# Altium schematic symbol library ESP8266.SchLib: 13 symbols
Pins are listed as number, name and electrical type; pins without a type are passive.

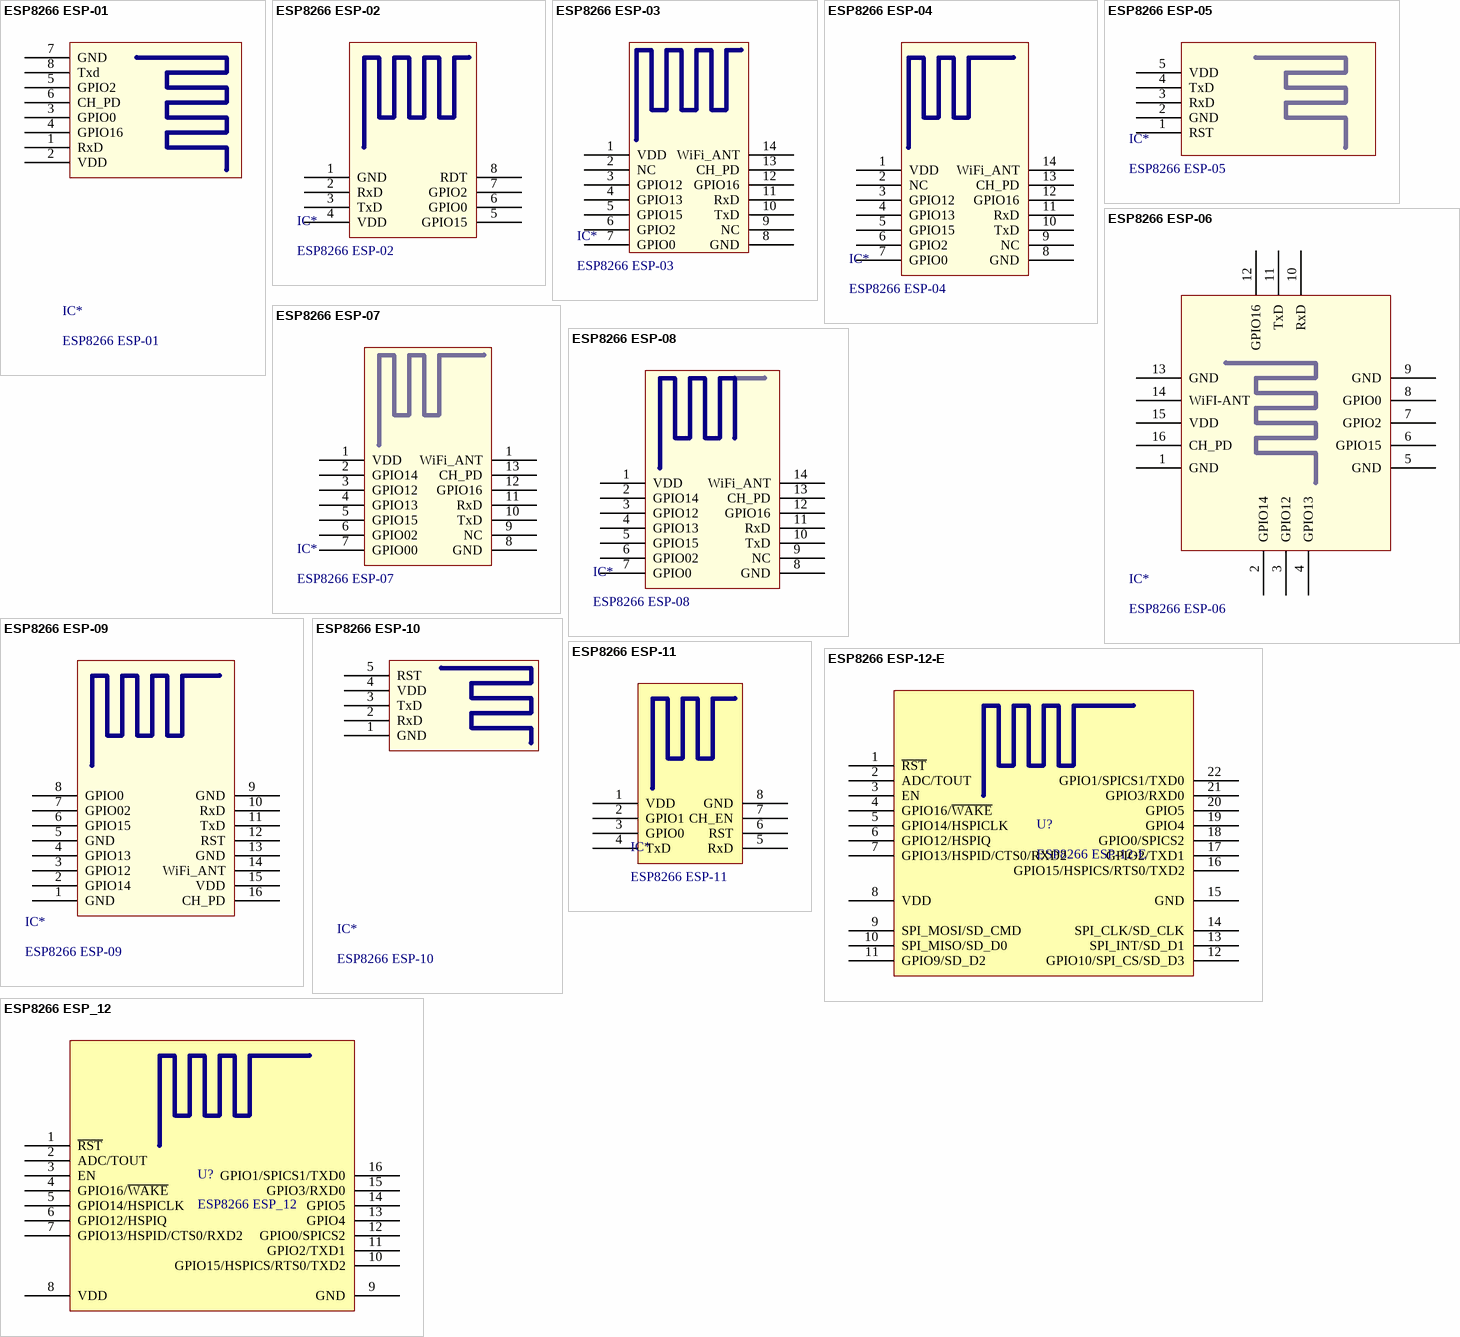
[diagram p0: symbols ESP8266 ESP-01 to ESP8266 ESP_12]

## ESP8266 ESP-01
designator IC*
footprint ESP8266 ESP-07 (ESP8266 ESP-01)
pins: 1 RxD, 2 VDD, 3 GPIO0, 4 GPIO16, 5 GPIO2, 6 CH_PD, 7 GND, 8 Txd

## ESP8266 ESP-02
designator IC*
footprint ESP8266 ESP-02
pins: 1 GND, 2 RxD, 3 TxD, 4 VDD, 5 GPIO15, 6 GPIO0, 7 GPIO2, 8 RDT

## ESP8266 ESP-03
designator IC*
footprint ESP8266 ESP-03
pins: 1 VDD, 2 NC, 3 GPIO12, 4 GPIO13, 5 GPIO15, 6 GPIO2, 7 GPIO0, 8 GND, 9 NC, 10 TxD, 11 RxD, 12 GPIO16, 13 CH_PD, 14 WiFi_ANT

## ESP8266 ESP-04
designator IC*
footprint ESP8266 ESP-04
pins: 1 VDD, 2 NC, 3 GPIO12, 4 GPIO13, 5 GPIO15, 6 GPIO2, 7 GPIO0, 8 GND, 9 NC, 10 TxD, 11 RxD, 12 GPIO16, 13 CH_PD, 14 WiFi_ANT

## ESP8266 ESP-05
designator IC*
footprint ESP8266 ESP-05
pins: 1 RST, 2 GND, 3 RxD, 4 TxD, 5 VDD

## ESP8266 ESP-06
designator IC*
footprint ESP8266 ESP-06
pins: 1 GND, 2 GPIO14, 3 GPIO12, 4 GPIO13, 5 GND, 6 GPIO15, 7 GPIO2, 8 GPIO0, 9 GND, 10 RxD, 11 TxD, 12 GPIO16, 13 GND, 14 WiFI-ANT, 15 VDD, 16 CH_PD

## ESP8266 ESP-07
designator IC*
footprint ESP8266 ESP-07 (ESP8266 ESP-01)
pins: 1 VDD (power), 1 WiFi_ANT, 2 GPIO14, 3 GPIO12, 4 GPIO13, 5 GPIO15, 6 GPIO02, 7 GPIO00, 8 GND, 9 NC, 10 TxD, 11 RxD, 12 GPIO16, 13 CH_PD

## ESP8266 ESP-08
designator IC*
footprint ESP8266 ESP-08
pins: 1 VDD (power), 2 GPIO14, 3 GPIO12, 4 GPIO13, 5 GPIO15, 6 GPIO02, 7 GPIO0, 8 GND, 9 NC, 10 TxD, 11 RxD, 12 GPIO16, 13 CH_PD, 14 WiFi_ANT

## ESP8266 ESP-09
designator IC*
footprint ESP8266 ESP-09
pins: 1 GND (power), 2 GPIO14, 3 GPIO12, 4 GPIO13, 5 GND (power), 6 GPIO15, 7 GPIO02, 8 GPIO0, 9 GND (power), 10 RxD, 11 TxD, 12 RST, 13 GND (power), 14 WiFi_ANT, 15 VDD (power), 16 CH_PD

## ESP8266 ESP-10
designator IC*
footprint ESP8266 ESP-10
pins: 1 GND, 2 RxD, 3 TxD, 4 VDD, 5 RST

## ESP8266 ESP-11
designator IC*
footprint ESP8266 ESP-11
pins: 1 VDD, 2 GPIO1, 3 GPIO0, 4 TxD, 5 RxD, 6 RST, 7 CH_EN, 8 GND

## ESP8266 ESP-12-E
designator U?
footprint ESP8266 ESP-12-E
pins: 1 ~{RST} "Reset", 2 ADC/TOUT "ADC Input Or TOUT Output", 3 EN "Chip enable", 4 GPIO16/~{WAKE} "GPIO16 or Deep-Sleep Wakeup", 5 GPIO14/HSPICLK "GPIO14 or SPI CLK", 6 GPIO12/HSPIQ "GPIO12 or SPIQ", 7 GPIO13/HSPID/CTS0/RXD2 "GPIO13 or SPID", 8 VDD "Power supply", 9 SPI_MOSI/SD_CMD "GPIO14 or SPI CLK", 10 SPI_MISO/SD_D0 "GPIO12 or SPIQ", 11 GPIO9/SD_D2 "GPIO13 or SPID", 12 GPIO10/SPI_CS/SD_D3 "GPIO15 or SPICS", 13 SPI_INT/SD_D1 "GPIO2 or TX", 14 SPI_CLK/SD_CLK "GPIO0 or SPICS2", 15 GND "Power ground", 16 GPIO15/HSPICS/RTS0/TXD2 "GPIO15 or SPICS", 17 GPIO2/TXD1 "GPIO2 or TX", 18 GPIO0/SPICS2 "GPIO0 or SPICS2", 19 GPIO4 "GPIO5", 20 GPIO5 "GPIO4", 21 GPIO3/RXD0 "GPIO3 or UART RXD", 22 GPIO1/SPICS1/TXD0 "GPIO1 or UART TXD"

## ESP8266 ESP_12
designator U?
ESP8266 ESP-12; IC: ESP8266-EX; Vendor: Ai-thinker; LatestReviewer: Zion Blue; Published: 14-Apr-2015; Publisher: Cynetik Group; LatestRevisionData: 14-Apr-2015; LatestRevisionNote: Include 3D body and Footprint
footprint ESP8266 ESP_12 (ESP8266 ESP-12)
pins: 1 ~{RST} "Reset", 2 ADC/TOUT "ADC Input Or TOUT Output", 3 EN "Chip enable", 4 GPIO16/~{WAKE} "GPIO16 or Deep-Sleep Wakeup", 5 GPIO14/HSPICLK "GPIO14 or SPI CLK", 6 GPIO12/HSPIQ "GPIO12 or SPIQ", 7 GPIO13/HSPID/CTS0/RXD2 "GPIO13 or SPID", 8 VDD "Power supply", 9 GND "Power ground", 10 GPIO15/HSPICS/RTS0/TXD2 "GPIO15 or SPICS", 11 GPIO2/TXD1 "GPIO2 or TX", 12 GPIO0/SPICS2 "GPIO0 or SPICS2", 13 GPIO4 "GPIO5", 14 GPIO5 "GPIO4", 15 GPIO3/RXD0 "GPIO3 or UART RXD", 16 GPIO1/SPICS1/TXD0 "GPIO1 or UART TXD"